# Altium footprint library MrKoi_Lib_PCB.PcbLib: 26 footprints (part 2 of 2)
Each footprint in its own frame and in the unit in brackets; x right, y up, seen from the top. Pads: shape width x height; smd on the part's side, far side on the other; paste and mask are expansions set on the pad; w line width, h text height; cw(c..) or ccw(c..) is an arc to the next point about the centre after c.
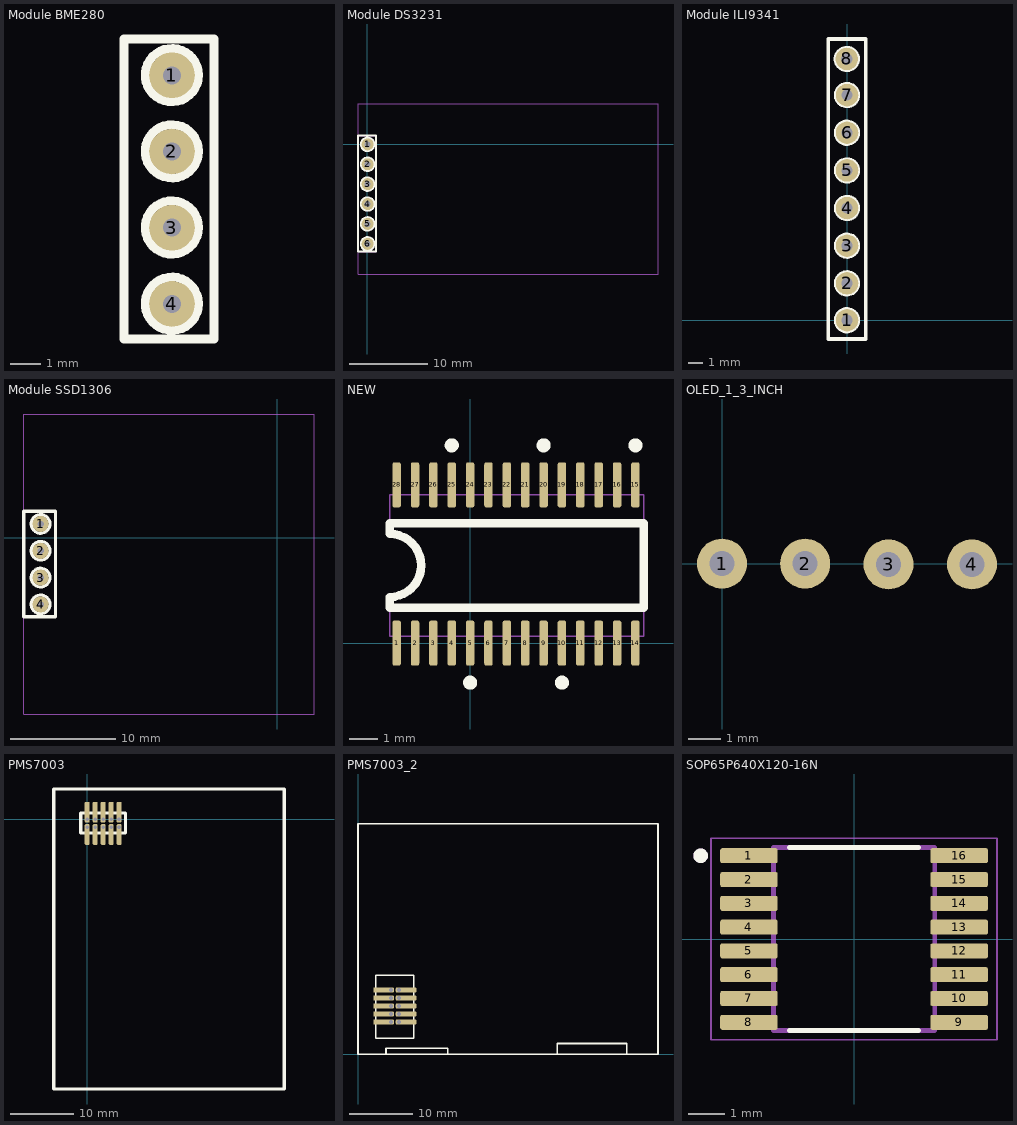
[diagram p1: the footprints below, top view; thin cyan lines are the x and y axes]

## Module BME280 [mil]
pads (4):
  round 60 hole 23.62: 1(-1055.3,-147.79) 2(-1055.3,-247.79) 3(-1055.3,-347.79) 4(-1055.3,-447.79)
Top Overlay:
  circle w11.81: c-1055.48,-247.55 r34.86
  circle w11.81: c-1055.48,-147.55 r34.86
  circle w11.81: c-1055.48,-447.55 r34.86
  circle w11.81: c-1055.48,-347.55 r34.86
  lines w11.81: -1118.29,-493.85 -1118.29,-100.15 -1000.18,-100.15 -1000.18,-493.85 -1118.29,-493.85
Bottom Hình chi?u b?ng:
  circle w1.97: c-1055.12,-248.03 r34.86
  circle w1.97: c-1055.12,-348.03 r34.86
  circle w1.97: c-1055.12,-148.03 r34.86
  circle w1.97: c-1055.12,-448.03 r34.86
3D body "Sensor BME280.stp": height 1.57, standoff -430.31, extent -1537.4,-505.91 -1005.91,-92.52

## Module BME280_2 [mil]
3D body "2.54 mm crooked Male Header Dupont Pins, 90°, 1X4 v1.step": height 50, standoff -240.94, extent -837,-167 -521.65,233
3D body "GY-BME280.STEP": height 0, standoff -532.3, extent -790.92,-240.63 -648,180.63

## Module DS3231 [mil]
pads (6):
  round 60 hole 30: 1(0.79,0) 2(0.79,-100) 3(0.79,-200) 4(0.79,-300) 5(0.79,-400) 6(0.79,-500)
Top Overlay:
  circle w11.81: c0.79,0 r32.85
  circle w11.81: c0.79,-500 r32.85
  circle w11.81: c0.79,-400 r32.85
  circle w11.81: c0.79,-300 r32.85
  circle w11.81: c0.79,-200 r32.85
  circle w11.81: c0.79,-100 r32.85
  lines w10: -46.46,-538.58 -46.46,44.09 44.09,44.09 44.09,-538.58 -46.46,-538.58
Bottom Hình chi?u b?ng:
  circle w1.97: c0,0 r32.85
  circle w1.97: c0.79,-500 r32.85
  circle w1.97: c0.79,-400 r32.85
  circle w1.97: c0.79,-300 r32.85
  circle w1.97: c0.79,-200 r32.85
  circle w1.97: c0.79,-100 r32.85
  lines w1.97: -46.46,-538.58 44.09,-538.58 44.09,44.09 -46.46,44.09 ; -46.46,-538.58 -46.46,44.09 ; -46.46,-538.58 -46.46,-653.54 1460.63,-653.54 1460.63,204.72 -47.24,204.72 -46.46,203.94 -46.46,44.09
3D body "DS3231 Timer Assembly.stp": height 0, standoff -694.09, extent -47.64,-652.76 1461.81,205.51

## Module ILI9341 [mil]
pads (8):
  round 60 hole 30: 1(0,0) 2(0,98.43) 3(0,198.82) 4(0,299.21) 5(0,399.61) 6(0,500) 7(0,600.39) 8(-0.45,696.85)
Top Overlay:
  circle w10: c-0.45,696.85 r30
  circle w10: c0,600.39 r30
  circle w10: c0,500 r30
  circle w10: c0,399.61 r30
  circle w10: c0,299.21 r30
  circle w10: c0,198.82 r30
  circle w10: c0,98.43 r30
  circle w10: c0,0 r30
  lines w10: -50,-50 50,-50 50,750 -50,750 -50,-50
3D body "LCD_MSP2807_fusion.step": height 546.85, standoff -28.35, extent -79.37,-935.19 3306.45,1035.68

## Module SSD1306 [mm]
pads (4):
  round 1.524 hole 0.6: 1(-22.4,1.29) 2(-22.4,-1.25) 3(-22.4,-3.79) 4(-22.4,-6.33)
Top Overlay:
  circle w0.3: c-22.405,1.296 r0.885
  circle w0.3: c-22.405,-1.244 r0.885
  circle w0.3: c-22.405,-3.784 r0.885
  circle w0.3: c-22.405,-6.324 r0.885
  lines w0.3: -24,-7.5 -21,-7.5 -21,2.5 -24,2.5 -24,-7.5
Bottom Hình chi?u b?ng:
  circle w0.05: c-22.395,-1.256 r0.885
  circle w0.05: c-22.395,-3.796 r0.885
  circle w0.05: c-22.395,-6.336 r0.885
  circle w0.05: c-22.395,1.284 r0.885
  lines w0.05: -24,-7.5 -21,-7.5 -21,2.5 -24,2.5 ; -24,-7.5 -24,2.5 ; -24,-7.5 -24,-16.7 3.5,-16.7 3.5,11.7 -24,11.7 -24,2.5
3D body "Pantalla OLED 0.96'' 128x64.stp": height 10.5, standoff -0.5, extent -23.86,-16.74 3.54,11.66

## NEW [mm]
pads (28):
  rrect50% 0.3x1.6 smd mask+0.07: 1(-2.6,0) 2(-1.95,0) 3(-1.3,0) 4(-0.65,0) 5(0,0) 6(0.65,0) 7(1.3,0) 8(1.95,0) 9(2.6,0) 10(3.25,0) 11(3.9,0) 12(4.55,0) 13(5.2,0) 14(5.85,0) 15(5.85,5.6) 16(5.2,5.6) 17(4.55,5.6) 18(3.9,5.6) 19(3.25,5.6) 20(2.6,5.6) 21(1.95,5.6) 22(1.3,5.6) 23(0.65,5.6) 24(0,5.6) 25(-0.65,5.6) 26(-1.3,5.6) 27(-1.95,5.6) 28(-2.6,5.6)
Top Overlay:
  circle w0.3: c0,-1.4 r0.1
  circle w0.3: c3.25,-1.4 r0.1
  circle w0.3: c5.85,7 r0.1
  circle w0.3: c2.6,7 r0.1
  circle w0.3: c-0.65,7 r0.1
  lines w0.3: -2.85,1.25 -2.85,1.632 ccw(c-2.85,2.75) -2.85,3.868 -2.85,4.25 6.15,4.25 6.15,1.25 -2.85,1.25
Bottom Hình chi?u b?ng:
  lines w0.05: -2.85,0.25 6.15,0.25 6.15,5.25 -2.85,5.25 -2.85,3.868 cw(c-2.85,2.75) -2.85,1.632 -2.85,0.25

## OLED_1_3_INCH [mil]
pads (4):
  round 60 hole 30: 1(0,0) 2(99.58,0) 3(199.58,-0.94) 4(299.58,-0.94)
3D body "Display 1.3 OLED (Mauro) v5.step": height 431.5, standoff -13.39, extent -554.75,-1268.66 854.7,50.24

## PMS7003 [mm] "Module 25.5mm x 18mm x 3.1mm"
height 3.1
pads (10):
  rrect50% 0.8x3.302 hole 0.6 copper offset 0,1.143 mask+0.102: 1(0,0) 3(1.27,0) 5(2.54,0) 7(3.81,0) 9(5.08,0)
  rrect50% 0.8x3.302 hole 0.6 copper offset 0,-1.143 mask+0.102: 2(0,-1.27) 4(1.27,-1.27) 6(2.54,-1.27) 8(3.81,-1.27) 10(5.08,-1.27)
Top Overlay:
  lines w0.508: -5.334,-42.926 -5.334,4.826 31.369,4.826 31.369,-42.926 -5.334,-42.926 ; -1.016,-2.159 -1.016,1.016 6.096,1.016 6.096,-2.159 -1.016,-2.159
3D body "pms7003.stp": height 12, standoff -0.3, extent -5.375,-42.895 31.625,5.105

## PMS7003_2 [mm]
pads (10):
  rrect50% 3.302x0.8 hole 0.6 copper offset -1.143,0 mask+0.102: 1(5.226,5.156) 3(5.226,6.426) 5(5.226,7.696) 7(5.226,8.966) 9(5.226,10.236)
  rrect50% 3.302x0.8 hole 0.6 copper offset 1.143,0 mask+0.102: 2(6.502,5.156) 4(6.502,6.426) 6(6.502,7.696) 8(6.502,8.966) 10(6.502,10.236)
Top Overlay:
  lines w0.254: 4.45,0.051 4.45,1 14.25,1 14.25,0.051 ; 31.7,0.025 31.7,1.737 42.7,1.737 42.7,0.025 ; 0,0 47.7,0 47.7,36.7 0,36.7 0,0 ; 2.85,2.58 8.85,2.58 8.85,12.58 2.85,12.58 2.85,2.58
3D body "User Library-PMS7003 v3.STEP": height 11.81, standoff 0.01, extent 0.051,-0.101 47.751,36.599

## SOP65P640X120-16N [mm]
pads (16):
  rrect25% 1.57x0.41 smd: 1(-2.87,2.275) 2(-2.87,1.625) 3(-2.87,0.975) 4(-2.87,0.325) 5(-2.87,-0.325) 6(-2.87,-0.975) 7(-2.87,-1.625) 8(-2.87,-2.275) 9(2.87,-2.275) 10(2.87,-1.625) 11(2.87,-0.975) 12(2.87,-0.325) 13(2.87,0.325) 14(2.87,0.975) 15(2.87,1.625) 16(2.87,2.275)
Top Overlay:
  circle w0.2: c-4.19,2.275 r0.1
  lines w0.127: -1.765,-2.5 1.765,-2.5 ; -1.765,2.5 1.765,2.5
Mechanical 13:
  circle w0.2: c-4.19,2.275 r0.1
  lines w0.127: -2.2,-2.5 -2.2,2.5 2.2,2.5 2.2,-2.5 -2.2,-2.5
Mechanical 15:
  lines w0.05: -3.905,-2.75 -3.905,2.75 3.905,2.75 3.905,-2.75 -3.905,-2.75
3D body "step_temp.STEP": height 1.2, standoff 0, extent -3.2,-2.5 3.2,2.5